# Altium footprint library 47uf.PcbLib: 1 footprints
Each footprint in its own frame and in the unit in brackets; x right, y up, seen from the top. Pads: shape width x height; smd on the part's side, far side on the other; paste and mask are expansions set on the pad; w line width, h text height; cw(c..) or ccw(c..) is an arc to the next point about the centre after c.
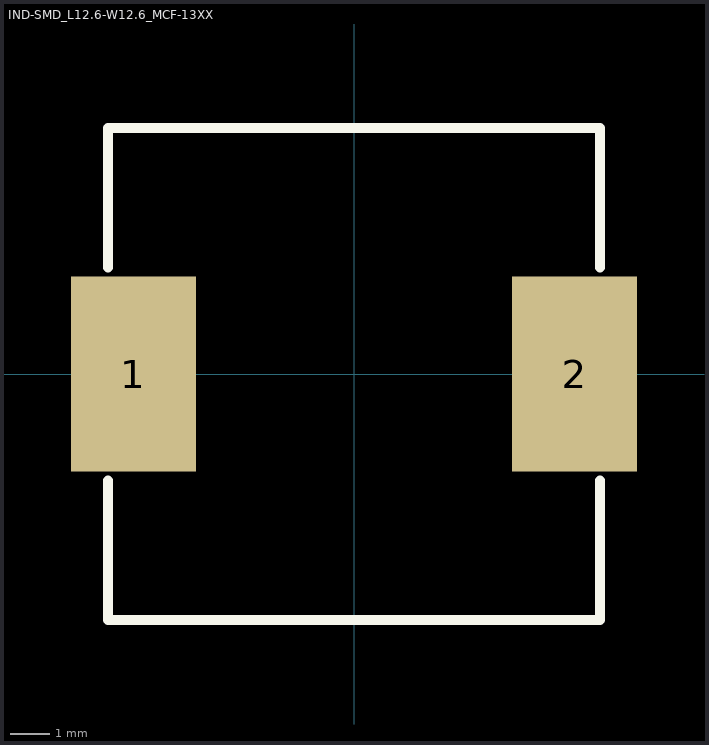
[diagram p0: the footprint, top view; thin cyan lines are the x and y axes]

## IND-SMD_L12.6-W12.6_MCF-13XX [mm]
pads (2):
  rect 3.2x5 smd: 1(-5.65,0) 2(5.65,0)
Top Overlay:
  lines w0.254: -6.3,-2.731 -6.3,-6.3 6.3,-6.3 6.3,-2.731 ; -6.3,2.731 -6.3,6.3 6.3,6.3 6.3,2.731